# Altium schematic symbol library mikroBUS_Add-on_standard.SchLib: 1 symbol
Pins are listed as number, name and electrical type; pins without a type are passive.

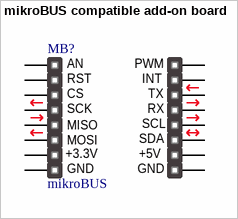
[diagram p0: symbol mikroBUS compatible add-on board]

## mikroBUS compatible add-on board
designator MB?, comment mikroBUS  (no BOM)
mikroBUS compatible add-on board
footprint mikroBUS - Large
footprint mikroBUS - Midi
footprint mikroBUS - Mini
pins: 1 AN, 2 RST, 3 CS, 4 SCK, 5 MISO, 6 MOSI, 7 3.3V, 8 GND, 9 GND, 10 5V, 11 SDA, 12 SCL, 13 TX, 14 RX, 15 INT, 16 PWM
text: +3.3V; +5V